# Altium schematic symbol library buffer_digital.SchLib: 76 symbols
Pins are listed as number, name and electrical type; pins without a type are passive.

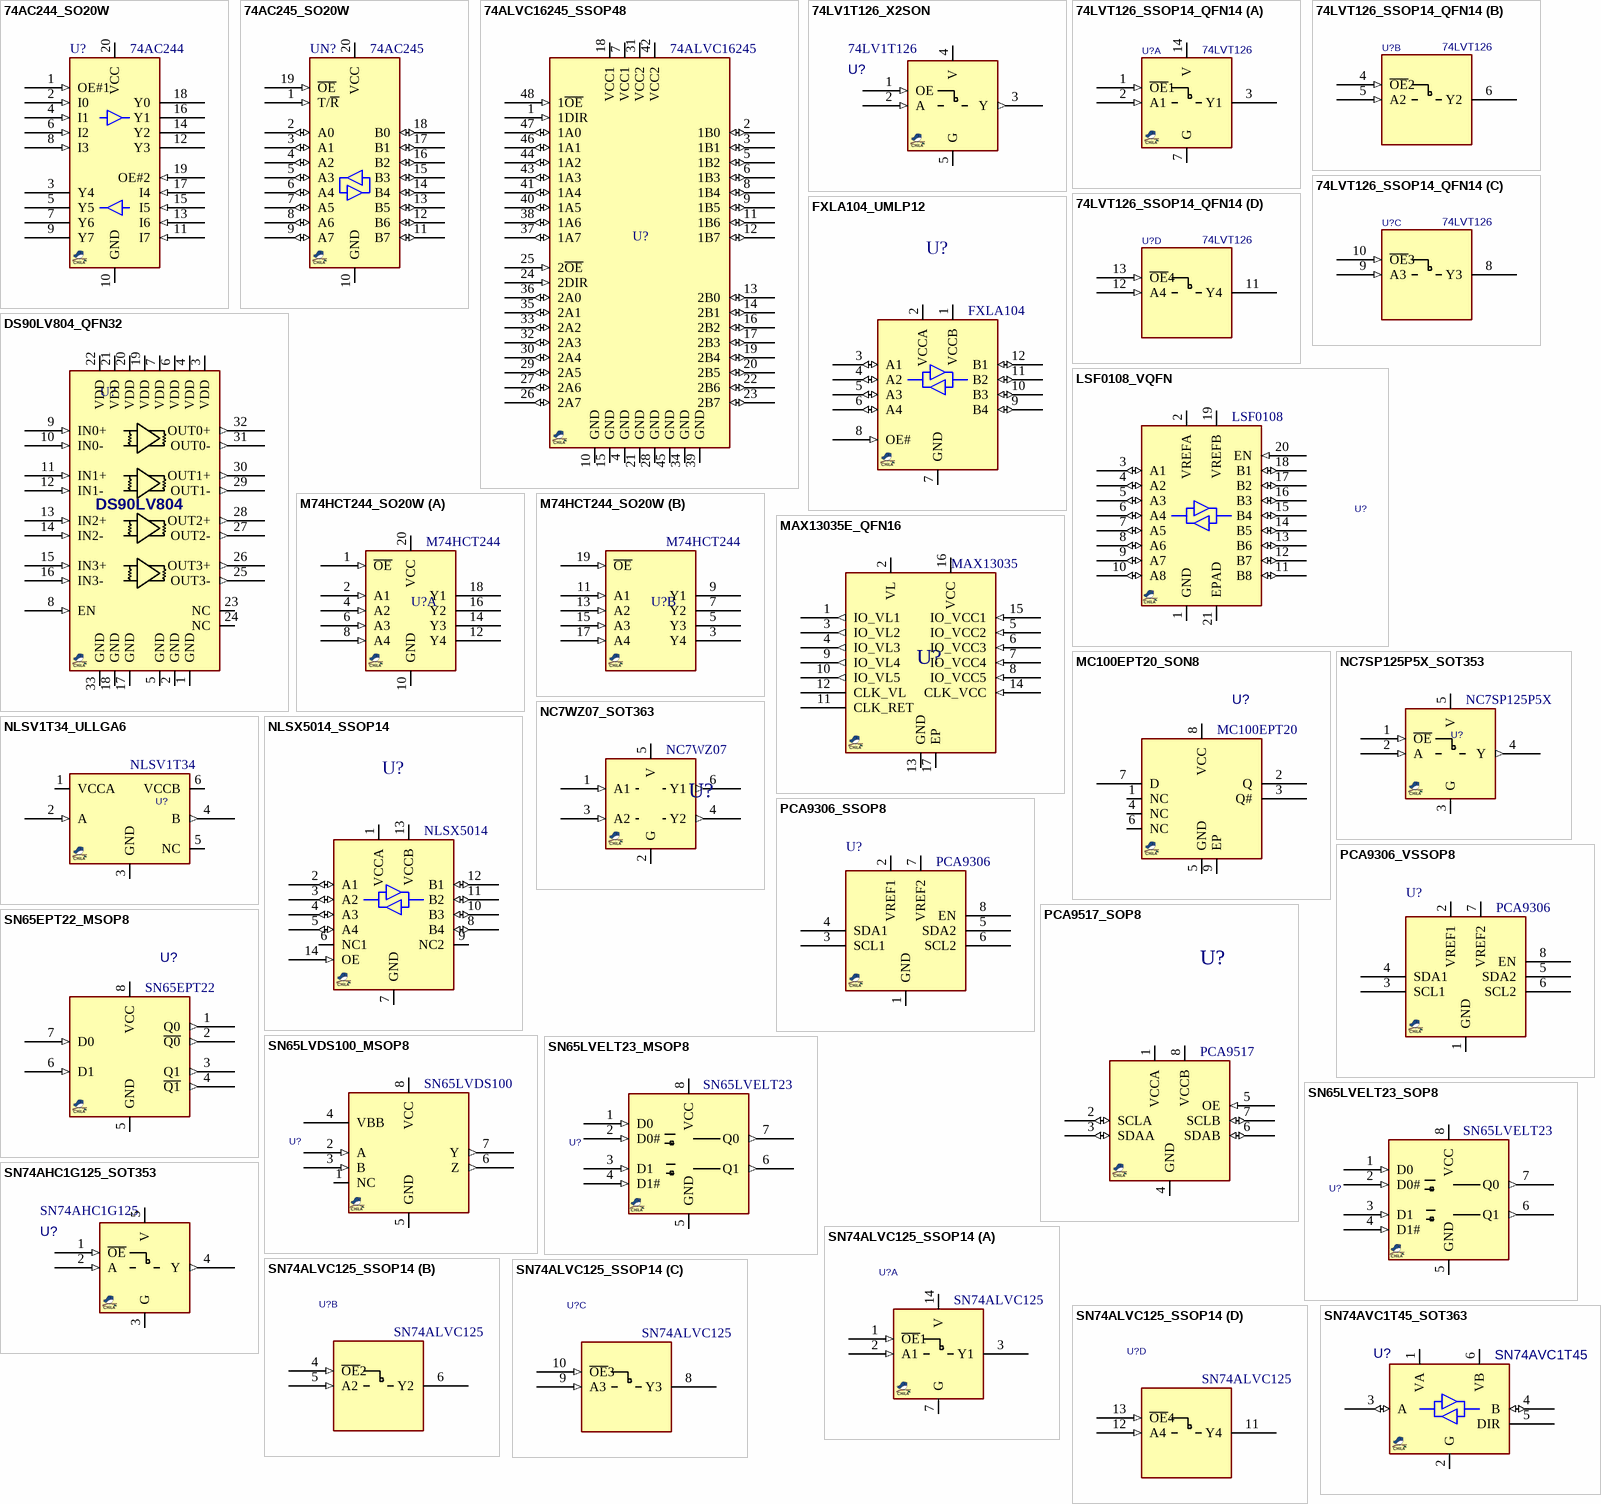
[diagram p0: symbols 74AC244_SO20W to SN74AVC1T45_SOT363]

## 74AC244_SO20W
designator U?, comment 74AC244
Buffer/Line Driver, Octal with 3-State Output; MANF: Fairchild; DIST#: MOUSER/512-74AC244SC; MANF_P#: 74AC244SC; PRICE: 0.6$; VALUE: 74AC244
footprint SO_20_W (SOP, SOIC, 7.5mm width, 1.27mm pitch,)
pins: 1 OE#1 (in), 2 I0 (in), 3 Y4 (hiz), 4 I1 (in), 5 Y5 (hiz), 6 I2 (in), 7 Y6 (hiz), 8 I3 (in), 9 Y7 (hiz), 10 GND (power), 11 I7 (in), 12 Y3 (hiz), 13 I6 (in), 14 Y2 (hiz), 15 I5 (in), 16 Y1 (hiz), 17 I4 (in), 18 Y0 (hiz), 19 OE#2 (in), 20 VCC (power)

## 74AC245_SO20W
designator UN?, comment 74AC245
Buffer/Line Driver, Bidirectional, Octal with 3-State Input/Output; MANF: Fairchild; DIST#: MOUSER/512-74AC245SCX; MANF_P#: 74AC245SCX; PRICE: 0.65$; VALUE: 74AC245
footprint SO_20_W (SOP, SOIC, 7.5mm width, 1.27mm pitch,)
pins: 1 T/~{R} (in), 2 A0 (io), 3 A1 (io), 4 A2 (io), 5 A3 (io), 6 A4 (io), 7 A5 (io), 8 A6 (io), 9 A7 (io), 10 GND (power), 11 B7 (io), 12 B6 (io), 13 B5 (io), 14 B4 (io), 15 B3 (io), 16 B2 (io), 17 B1 (io), 18 B0 (io), 19 ~{OE} (in), 20 VCC (power)

## 74ALVC16245_SSOP48
designator U?, comment 74ALVC16245
bus transceiver, 16-bit, with direction pin; 3-state; MANF: NXP; MANF_P#: 74ALVC16245DL, 74ALVCH16245DL; VALUE: 74ALVC16245
footprint SOG63_48
pins: 1 1DIR (in), 2 1B0 (io), 3 1B1 (io), 4 GND (power), 5 1B2 (io), 6 1B3 (io), 7 VCC1 (power), 8 1B4 (io), 9 1B5 (io), 10 GND (power), 11 1B6 (io), 12 1B7 (io), 13 2B0 (io), 14 2B1 (io), 15 GND (power), 16 2B2 (io), 17 2B3 (io), 18 VCC1 (power), 19 2B4 (io), 20 2B5 (io), 21 GND (power), 22 2B6 (io), 23 2B7 (io), 24 2DIR (in), 25 2~{OE} (in), 26 2A7 (io), 27 2A6 (io), 28 GND (power), 29 2A5 (io), 30 2A4 (io), 31 VCC2 (power), 32 2A3 (io), 33 2A2 (io), 34 GND (power), 35 2A1 (io), 36 2A0 (io), 37 1A7 (io), 38 1A6 (io), 39 GND (power), 40 1A5 (io), 41 1A4 (io), 42 VCC2 (power), 43 1A3 (io), 44 1A2 (io), 45 GND (power), 46 1A1 (io), 47 1A0 (io), 48 1~{OE} (in)

## 74LV1T126_X2SON
designator U?, comment 74LV1T126
Buffer, Single; MANF: NXP; PARAM: ±24mA, 5ns, -40~125°C; DESC: DESCRIPTION; MANF_P#: 74LV1T126GX; PARAM2: 1.65~5.5v; ASSEMBLY: ASSEMBLY; PRICE: 0.4$; VALUE: 74LV1T126
footprint SON50_4T_0808 (SDFN-4, X2SON 5, DPW, 0.8X0.8mm, 0.48mm pitch)
pins: 1 OE (in), 2 A (in), 3 Y (out), 4 V (power), 5 G (power)

## 74LVT126_SSOP14_QFN14
designator U?, comment 74LVT126
Buffer/Line Driver, Quad, Tri-State; MANF: NXP; MANF_P#: 74LVT126BQ,115; PARAM2: 3.3V; PARAM: 64mA, 6ns, -40~85°C; PRICE: 0.4$; VALUE: 74LVT126
footprint QFN50_14T_2530 (DHVQFN14, 0.5mm pitch, 2.5x3x0.85mm)
part A pins: 1 ~{OE}1 (in), 2 A1 (in), 3 Y1 (hiz), 7 G (power), 14 V (power)
part B pins: 4 ~{OE}2 (in), 5 A2 (in), 6 Y2 (hiz)
part C pins: 8 Y3 (hiz), 9 A3 (in), 10 ~{OE}3 (in)
part D pins: 11 Y4 (hiz), 12 A4 (in), 13 ~{OE}4 (in)

## DS90LV804_QFN32
designator U?, comment DS90LV804  (value not drawn)
Buffer/Line Driver, 4CH, LVDS, 800Mbps; MANF: Texas Instruments; MANF_P#: DS90LV804TSQ; PARAM2: 3.3Vcc; DIST#: -; PRICE: 5$; PARAM: 4CH, LVDS, 800Mbps; VALUE: DS90LV804
footprint QFN50_32T (QFN-32, RGJ, 5X5mm, 0.5mm)
pins: 1 GND (power), 2 GND (power), 3 VDD (power), 4 VDD (power), 5 GND (power), 6 VDD (power), 7 VDD (power), 8 EN (in), 9 IN0+ (in), 10 IN0- (in), 11 IN1+ (in), 12 IN1- (in), 13 IN2+ (in), 14 IN2- (in), 15 IN3+ (in), 16 IN3- (in), 17 GND (power), 18 GND (power), 19 VDD (power), 20 VDD (power), 21 VDD (power), 22 VDD (power), 23 NC, 24 NC, 25 OUT3- (out), 26 OUT3+ (out), 27 OUT2- (out), 28 OUT2+ (out), 29 OUT1- (out), 30 OUT1+ (out), 31 OUT0- (out), 32 OUT0+ (out), 33 GND (power)

## FXLA104_UMLP12
designator U?, comment FXLA104
Level Translator, Quad, 100Mbps, UMLP-12; MANF: ON/FAIRCHILD; MANF_P#: FXLA104UM12X; PARAM2: 1.1~3.6VCC (VCCA<=VCCB); PARAM: 100Mbps, -40~85oC; PRICE: 1.4$; VALUE: FXLA104
footprint QFN40_12_1818 (UMLP-12, QFN, 12-Leads, 1.8x1.80mm, Pitch 0.40mm, JEDEC MO-252)
pins: 1 VCCB, 2 VCCA, 3 A1 (io), 4 A2 (io), 5 A3 (io), 6 A4 (io), 7 GND, 8 OE# (in), 9 B4 (io), 10 B3 (io), 11 B2 (io), 12 B1 (io)

## LSF0108_VQFN
designator U?, comment LSF0108
Level Translator, 8CH, Bidirectional, Open-Drain/Push-Pull App; MANF: TI; MANF_P#: LSF0108RKSR; VALUE: LSF0108
footprint QFN50_20T_4X2 (RGY VQFN-20, 0.5mm Pitch, 4.5x2.5x1mm)
pins: 1 GND (power), 2 VREFA (power), 3 A1 (io), 4 A2 (io), 5 A3 (io), 6 A4 (io), 7 A5 (io), 8 A6 (io), 9 A7 (io), 10 A8 (io), 11 B8 (io), 12 B7 (io), 13 B6 (io), 14 B5 (io), 15 B4 (io), 16 B3 (io), 17 B2 (io), 18 B1 (io), 19 VREFB (power), 20 EN (in), 21 EPAD

## M74HCT244_SO20W
designator U?, comment M74HCT244
Buffer, Octal, 3 State Outputs; MANF: ON; MANF_P#: M74HCT244M1R; VALUE: M74HCT244
footprint SO_20_W (SOP, SOIC, 7.5mm width, 1.27mm pitch,)
part A pins: 1 ~{OE} (in), 2 A1 (in), 4 A2 (in), 6 A3 (in), 8 A4 (in), 10 GND (power), 12 Y4 (hiz), 14 Y3 (hiz), 16 Y2 (hiz), 18 Y1 (hiz), 20 VCC (power)
part B pins: 3 Y4 (hiz), 5 Y3 (hiz), 7 Y2 (hiz), 9 Y1 (hiz), 11 A1 (in), 13 A2 (in), 15 A3 (in), 17 A4 (in), 19 ~{OE} (in)

## MAX13035E_QFN16
designator U?, comment MAX13035
Level Translator, 6-ch, 100Mbps; MANF: MAXIM; MANF_P#: MAX13035EETE+; PARAM2: 1.6~3.2VAA/2.2~3.6VB; VALUE: MAX13035
footprint QFN50_16T_4X4 (QFN, 16, 4X4mm, 0.5mm)
pins: 1 IO_VL1 (out), 2 VL, 3 IO_VL2 (out), 4 IO_VL3 (out), 5 IO_VCC2 (in), 6 IO_VCC3 (in), 7 IO_VCC4 (in), 8 IO_VCC5 (in), 9 IO_VL4 (out), 10 IO_VL5 (out), 11 CLK_RET, 12 CLK_VL, 13 GND, 14 CLK_VCC (in), 15 IO_VCC1 (in), 16 VCC, 17 EP

## MC100EPT20_SON8
designator U?, comment MC100EPT20
Buffer, LVTTL/LVCMOS to Diff-LVPECL , 1GHz, 3.3V, DFN-8; MANF: ON; DESC: DESCRIPTION; MANF_P#: MC100EPT20MNR4G; ASSEMBLY: ASSEMBLY; PARAM: PARAM; PRICE: 8$; VALUE: MC100EPT20
footprint SON50_8T_2020 (DSG PWSON (TI), Pitch: 0.5mm 2x2x0.8mm with Thermal pad)
pins: 1 NC, 2 Q, 3 Q#, 4 NC, 5 GND, 6 NC, 7 D, 8 VCC, 9 EP

## NC7SP125P5X_SOT353
designator U?, comment NC7SP125P5X
Buffer, ULP, 0.9-3.6V; MANF: FAIRCHILD; MANF_P#: NC7SP125P5X; PARAM2: 0.9-3.6V; PRICE: -; VALUE: NC7SP125P5X
footprint SOT353_5 (SC-88A, SC70-5, SOT-353, DCK (TI), 0.65mm pitch 2X1.3mm body)
pins: 1 ~{OE} (in), 2 A (in), 3 G (power), 4 Y (out), 5 V (power)

## NC7WZ07_SOT363
designator U?, comment NC7WZ07
Buffer, Dual, UHS, OpenDrainOutput; MANF: FAIRCHILD; MANF_P#: NC7WZ07P6X; PARAM2: 1.65~5.5V; VALUE: NC7WZ07
footprint SOT363_6 (SOT-363, SC-70_6, BFS483, SC-88, MO-203AB, DSO65_6_200X130)
pins: 1 A1 (in), 2 G, 3 A2 (in), 4 Y2 (out), 5 V, 6 Y1 (out)

## NLSV1T34_ULLGA6
designator U?, comment NLSV1T34
Level Translator, 1BIT 0.9-4.5V 613AF; MANF: On Semiconductor; MANF_P#: NLSV1T34AMX1TCG; VALUE: NLSV1T34
footprint SON50_6_140X100 (DRY, ULLGA6_1.45X1_0.5MM, USON 6-PIN , Udfn)
pins: 1 VCCA (power), 2 A (in), 3 GND (power), 4 B (out), 5 NC, 6 VCCB (power)

## NLSX5014_SSOP14
designator U?, comment NLSX5014
Level Translator, Quad, 100Mbps; MANF: ON; MANF_P#: NLSX5014DTR2G; PARAM2: 0.9~4.5V; PARAM: 100Mbps, -55~125oC; VALUE: NLSX5014
footprint SOG65_14 (PW TSSOP (TI), MO-153-AB (JEDEC), 14Lead, pitch: 0.65mm, 5x4.4x1.2mm)
pins: 1 VCCA, 2 A1 (io), 3 A2 (io), 4 A3 (io), 5 A4 (io), 6 NC1, 7 GND, 8 B4 (io), 9 NC2, 10 B3 (io), 11 B2 (io), 12 B1 (io), 13 VCCB, 14 OE (in)

## PCA9306_SSOP8
designator U?, comment PCA9306
Level Translator, I2C; MANF: Texas Instruments; MANF_P#: PCA9306DCTR; PARAM2: 1.2~3.3V1, 1.8~5.5V2; PRICE: 1=0.94, 10=0.829, 25=0.7488, 100=0.351, 250=0.34452, 500=0.338, 750=0.33151 (USD); VALUE: PCA9306
footprint SOG65_8_3 (TSSOP8, MICRO8,  DGK VSSOP-8, MSOP8,   RM-8, MS8, MSOP-8, TSSO3X5-G8/D3.1, 8 uMAX, usop8/8uSOP, MO-187AA, MO-153AA, SSOP DCT SM8 (TI), pitch: 0.65mm, 3.0mmX3.0mm)
pins: 1 GND, 2 VREF1, 3 SCL1, 4 SDA1, 5 SDA2, 6 SCL2, 7 VREF2, 8 EN

## PCA9306_VSSOP8
designator U?, comment PCA9306
Level Translator, I2C; MANF: Texas Instruments; MANF_P#: PCA9306DCUT; PARAM2: 1.2~3.3V1, 1.8~5.5V2; PRICE: 1=0.94, 10=0.829, 25=0.7488, 100=0.351, 250=0.34452, 500=0.338, 750=0.33151 (USD); VALUE: PCA9306
footprint SOG50_8 (VSSOP DCU US8  (TI), 8-Leads, 2.00x2.30mm, Pitch 0.50mm)
pins: 1 GND, 2 VREF1, 3 SCL1, 4 SDA1, 5 SDA2, 6 SCL2, 7 VREF2, 8 EN

## PCA9517_SOP8
designator U?, comment PCA9517
Level Translator, I2C; MANF: TI; MANF_P#: PCA9517D; PARAM2: 2.7~5.5V; VALUE: PCA9517
footprint SO_8 (SOP-8, 5x3.9mm body 1.27mm pitch, SOT96-1, M08A, S8, SOIC8, VO8, MS-012AA(JEDEC), R-8, 8S2, VOG8)
pins: 1 VCCA, 2 SCLA (io), 3 SDAA (io), 4 GND, 5 OE (in), 6 SDAB (io), 7 SCLB (io), 8 VCCB

## SN65EPT22_MSOP8
designator U?, comment SN65EPT22
Buffer, LVTTL/LVCMOS to Diff-LVPECL , DUAL, 4000Mbps, 3.3V, VSSOP (DGK); MANF: Texas Instruments; DESC: DESCRIPTION; MANF_P#: SN65EPT22DGK; ASSEMBLY: ASSEMBLY; PARAM: PARAM; PRICE: PRICE; VALUE: SN65EPT22
footprint SOG65_8_3 (TSSOP8, MICRO8,  DGK VSSOP-8, MSOP8,   RM-8, MS8, MSOP-8, TSSO3X5-G8/D3.1, 8 uMAX, usop8/8uSOP, MO-187AA, MO-153AA, SSOP DCT SM8 (TI), pitch: 0.65mm, 3.0mmX3.0mm)
pins: 1 Q0 (out) "LVPECL outputs", 2 ~{Q0} (out) "LVPECL outputs", 3 Q1 (out) "LVPECL outputs", 4 ~{Q1} (out) "LVPECL outputs", 5 GND (power) "Ground", 6 D1 (in) "LVTTL data inputs", 7 D0 (in) "LVTTL data inputs", 8 VCC (power) "Positive supply"

## SN65LVDS100_MSOP8
designator U?, comment SN65LVDS100
Buffer, Diff LVPECL/LVDS/CML signaling, 3.3V; MANF: Texas Instruments; MANF_P#: SN65LVDS100DGK; PARAM2: 3.3V; VALUE: SN65LVDS100
footprint SOG65_8_3 (TSSOP8, MICRO8,  DGK VSSOP-8, MSOP8,   RM-8, MS8, MSOP-8, TSSO3X5-G8/D3.1, 8 uMAX, usop8/8uSOP, MO-187AA, MO-153AA, SSOP DCT SM8 (TI), pitch: 0.65mm, 3.0mmX3.0mm)
pins: 1 NC, 2 A (in), 3 B (in), 4 VBB, 5 GND (power), 6 Z (out), 7 Y (out), 8 VCC (power)

## SN65LVELT23_MSOP8
designator U?, comment SN65LVELT23
Buffer, Diff LVPECL/LVDS to LVTTL Translator, 2-CH, 3.3V; MANF: Texas Instruments; MANF_P#: SN65LVELT23DGK; PARAM: 8-BIT, BIDIRECTIONAL, AUTO-DIRECTION SENSING; PARAM2: 3.3V; VALUE: SN65LVELT23
footprint SOG65_8_3 (TSSOP8, MICRO8,  DGK VSSOP-8, MSOP8,   RM-8, MS8, MSOP-8, TSSO3X5-G8/D3.1, 8 uMAX, usop8/8uSOP, MO-187AA, MO-153AA, SSOP DCT SM8 (TI), pitch: 0.65mm, 3.0mmX3.0mm)
pins: 1 D0 (in), 2 D0# (in), 3 D1 (in), 4 D1# (in), 5 GND, 6 Q1 (out), 7 Q0 (out), 8 VCC

## SN65LVELT23_SOP8
designator U?, comment SN65LVELT23
Buffer, Diff LVPECL/LVDS to LVTTL Translator, 2-CH, 3.3V; MANF: Texas Instruments; MANF_P#: SN65LVELT23D; PARAM: 8-BIT, BIDIRECTIONAL, AUTO-DIRECTION SENSING; PARAM2: 3.3V; VALUE: SN65LVELT23
footprint SO_8 (SOP-8, 5x3.9mm body 1.27mm pitch, SOT96-1, M08A, S8, SOIC8, VO8, MS-012AA(JEDEC), R-8, 8S2, VOG8)
pins: 1 D0 (in), 2 D0# (in), 3 D1 (in), 4 D1# (in), 5 GND, 6 Q1 (out), 7 Q0 (out), 8 VCC

## SN74AHC1G125_SOT353
designator U?, comment SN74AHC1G125
Buffer, Single; MANF: TI; DESC: DESCRIPTION; MANF_P#: SN74AHC1G125DCKR; ASSEMBLY: ASSEMBLY; PARAM: PARAM; PRICE: PRICE; VALUE: SN74AHC1G125
footprint SOT353_5 (SC-88A, SC70-5, SOT-353, DCK (TI), 0.65mm pitch 2X1.3mm body)
pins: 1 ~{OE} (in), 2 A (in), 3 G (power), 4 Y (out), 5 V (power)

## SN74ALVC125_SSOP14
designator U?, comment SN74ALVC125
Buffer/Line Driver, Quad, Tri-State; MANF: Texas Instruments; MANF_P#: SN74ALVC125PWR; VALUE: SN74ALVC125
footprint SOG65_14 (PW TSSOP (TI), MO-153-AB (JEDEC), 14Lead, pitch: 0.65mm, 5x4.4x1.2mm)
part A pins: 1 ~{OE}1 (in), 2 A1 (in), 3 Y1 (hiz), 7 G (power), 14 V (power)
part B pins: 4 ~{OE}2 (in), 5 A2 (in), 6 Y2 (hiz)
part C pins: 8 Y3 (hiz), 9 A3 (in), 10 ~{OE}3 (in)
part D pins: 11 Y4 (hiz), 12 A4 (in), 13 ~{OE}4 (in)

## SN74AVC1T45_SOT363
designator U?, comment SN74AVC1T45
Level Translator, 1-bit; PARAM: 1.2V-3.6V; MANF: TI; DESC: DESCRIPTION; MANF_P#: SN74AVC1T45DCKR; PRICE: 0.217; ASSEMBLY: ASSEMBLY; VALUE: SN74AVC1T45
footprint SOT363_6 (SOT-363, SC-70_6, BFS483, SC-88, MO-203AB, DSO65_6_200X130)
pins: 1 VA (power), 2 G (power), 3 A (io), 4 B (io), 5 DIR, 6 VB (power)

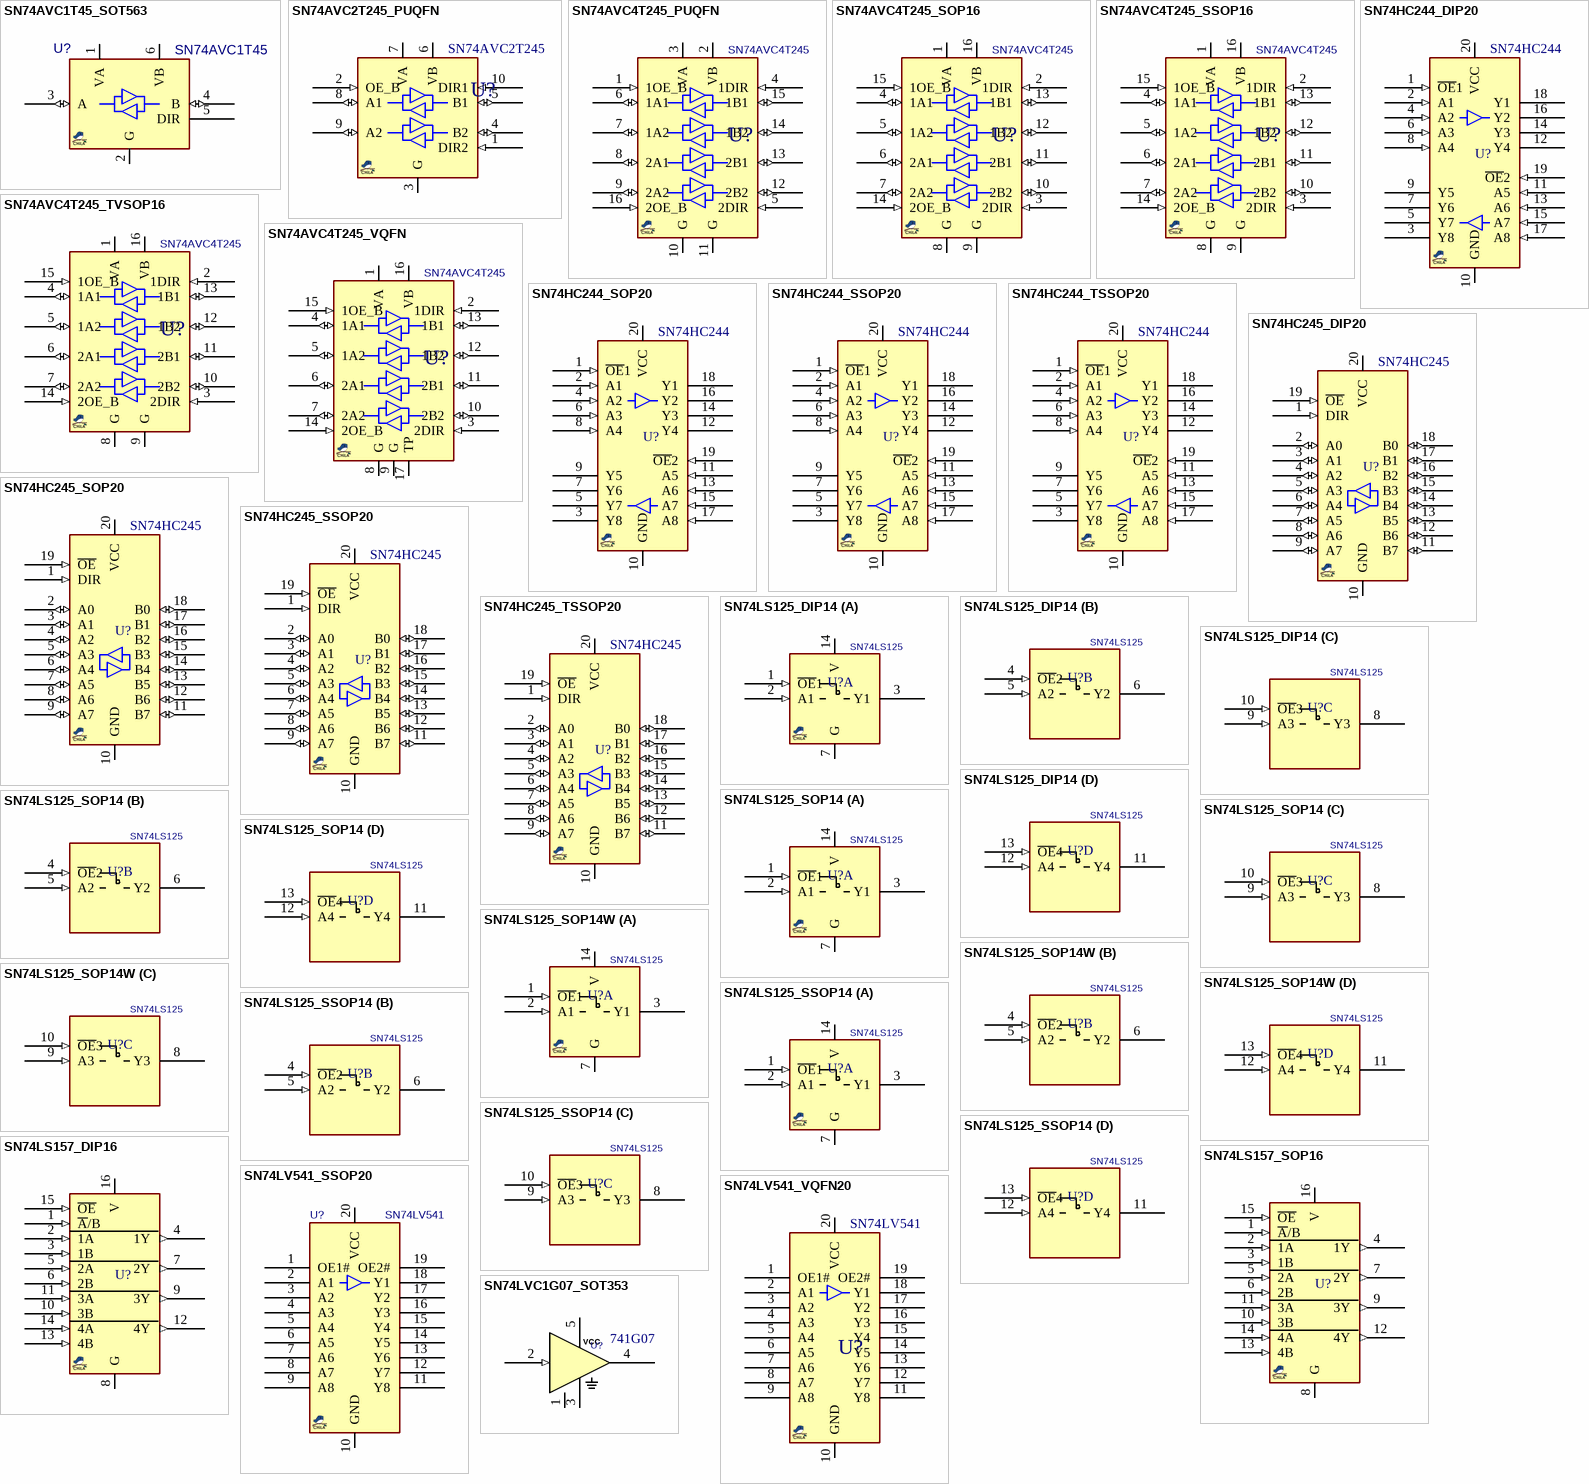
[diagram p1: symbols SN74AVC1T45_SOT563 to SN74LVC1G07_SOT353]

## SN74AVC1T45_SOT563
designator U?, comment SN74AVC1T45
Level Translator, 1-bit; PARAM: 1.2V-3.6V; MANF: TI; DESC: DESCRIPTION; MANF_P#: SN74AVC1T45DRL; PRICE: 0.217; ASSEMBLY: ASSEMBLY; VALUE: SN74AVC1T45
footprint SOT563_6 (SOT-563, SOT-666, 6 LEAD, Body 1.2x1.6mm, Pitch 0.50mm)
pins: 1 VA (power), 2 G (power), 3 A (io), 4 B (io), 5 DIR, 6 VB (power)

## SN74AVC2T245_PUQFN
designator U?, comment SN74AVC2T245
Level Translator, Dual, 3State; MANF: TEXAS INSTRUMENTS; MANF_P#: SN74AVC2T245RSWR; PRICE: 0.6$; VALUE: SN74AVC2T245
footprint QFN40_10_1418 (PUQFN-10 RSW 1.8X1.4mm, 0.4mm pitch)
pins: 1 DIR2 (in), 2 OE_B (in), 3 G, 4 B2 (io), 5 B1 (io), 6 VB, 7 VA, 8 A1 (io), 9 A2 (io), 10 DIR1 (in)

## SN74AVC4T245_PUQFN
designator U?, comment SN74AVC4T245
Level Translator, Quad, 3State; MANF: TEXAS INSTRUMENTS; MANF_P#: SN74AVC4T245RSVR; PARAM2: 1.2~3.6V; PARAM: 2.9ns; PRICE: 1$; VALUE: SN74AVC4T245
footprint QFN40_16_2618 (PUQFN-16 RSV 2.6X1.8mm, 0.4mm pitch)
pins: 1 1OE_B (in), 2 VB, 3 VA, 4 1DIR (in), 5 2DIR (in), 6 1A1 (io), 7 1A2 (io), 8 2A1 (io), 9 2A2 (io), 10 G, 11 G, 12 2B2 (io), 13 2B1 (io), 14 1B2 (io), 15 1B1 (io), 16 2OE_B (in)

## SN74AVC4T245_SOP16
designator U?, comment SN74AVC4T245
Level Translator, Quad, 3State; MANF: TEXAS INSTRUMENTS; MANF_P#: SN74AVC4T245DR; PARAM2: 1.2~3.6V; PARAM: 2.9ns; PRICE: 1$; VALUE: SN74AVC4T245
footprint SO_16 (SOP, SOIC, 3.9mm width, 1.27mm pitch,)
pins: 1 VA, 2 1DIR (in), 3 2DIR (in), 4 1A1 (io), 5 1A2 (io), 6 2A1 (io), 7 2A2 (io), 8 G, 9 G, 10 2B2 (io), 11 2B1 (io), 12 1B2 (io), 13 1B1 (io), 14 2OE_B (in), 15 1OE_B (in), 16 VB

## SN74AVC4T245_SSOP16
designator U?, comment SN74AVC4T245
Level Translator, Quad, 3State; MANF: TEXAS INSTRUMENTS; MANF_P#: SN74AVC4T245PWR; PARAM2: 1.2~3.6V; PARAM: 2.9ns; PRICE: 1$; VALUE: SN74AVC4T245
footprint SOG65_16 (PW TSSOP (TI), MO-153-AB (JEDEC), 16Lead, pitch: 0.65mm, 5x4.4x1.2mm)
pins: 1 VA, 2 1DIR (in), 3 2DIR (in), 4 1A1 (io), 5 1A2 (io), 6 2A1 (io), 7 2A2 (io), 8 G, 9 G, 10 2B2 (io), 11 2B1 (io), 12 1B2 (io), 13 1B1 (io), 14 2OE_B (in), 15 1OE_B (in), 16 VB

## SN74AVC4T245_TVSOP16
designator U?, comment SN74AVC4T245
Level Translator, Quad, 3State; MANF: TEXAS INSTRUMENTS; MANF_P#: SN74AVC4T245DGVR; PARAM2: 1.2~3.6V; PARAM: 2.9ns; PRICE: 1$; VALUE: SN74AVC4T245
footprint SOG40_16
pins: 1 VA, 2 1DIR (in), 3 2DIR (in), 4 1A1 (io), 5 1A2 (io), 6 2A1 (io), 7 2A2 (io), 8 G, 9 G, 10 2B2 (io), 11 2B1 (io), 12 1B2 (io), 13 1B1 (io), 14 2OE_B (in), 15 1OE_B (in), 16 VB

## SN74AVC4T245_VQFN
designator U?, comment SN74AVC4T245
Level Translator, Quad, 3State; MANF: TEXAS INSTRUMENTS; MANF_P#: SN74AVC4T245RGYR; PARAM2: 1.2~3.6V; PARAM: 2.9ns; PRICE: 1$; VALUE: SN74AVC4T245
footprint QFN50_16T_4X3 (Footprint not found)
pins: 1 VA, 2 1DIR (in), 3 2DIR (in), 4 1A1 (io), 5 1A2 (io), 6 2A1 (io), 7 2A2 (io), 8 G, 9 G, 10 2B2 (io), 11 2B1 (io), 12 1B2 (io), 13 1B1 (io), 14 2OE_B (in), 15 1OE_B (in), 16 VB, 17 TP

## SN74HC244_DIP20
designator U?, comment SN74HC244
Buffer/Line Driver, Octal, 3-State Outputs; MANF: Texas Instruments; MANF_P#: SN74HC244N; PARAM2: 2~6V; VALUE: SN74HC244
footprint DIP_20 (DIP, pitch 2.54mm, 300mil Width)
pins: 1 ~{OE}1 (in), 2 A1 (in), 3 Y8 (hiz), 4 A2 (in), 5 Y7 (hiz), 6 A3 (in), 7 Y6 (hiz), 8 A4 (in), 9 Y5 (hiz), 10 GND (power), 11 A5 (in), 12 Y4 (hiz), 13 A6 (in), 14 Y3 (hiz), 15 A7 (in), 16 Y2 (hiz), 17 A8 (in), 18 Y1 (hiz), 19 ~{OE}2 (in), 20 VCC (power)

## SN74HC244_SOP20
designator U?, comment SN74HC244
Buffer/Line Driver, Octal, 3-State Outputs; MANF: Texas Instruments; MANF_P#: SN74HC245NS; PARAM2: 2~6V; VALUE: SN74HC244
footprint SO_20_W5 (Footprint not found)
pins: 1 ~{OE}1 (in), 2 A1 (in), 3 Y8 (hiz), 4 A2 (in), 5 Y7 (hiz), 6 A3 (in), 7 Y6 (hiz), 8 A4 (in), 9 Y5 (hiz), 10 GND (power), 11 A5 (in), 12 Y4 (hiz), 13 A6 (in), 14 Y3 (hiz), 15 A7 (in), 16 Y2 (hiz), 17 A8 (in), 18 Y1 (hiz), 19 ~{OE}2 (in), 20 VCC (power)

## SN74HC244_SSOP20
designator U?, comment SN74HC244
Buffer/Line Driver, Octal, 3-State Outputs; MANF: Texas Instruments; MANF_P#: SN74HC244DB; PARAM2: 2~6V; VALUE: SN74HC244
footprint SOG65_20_W (SSOP20, TSSOP20, RU-20, RQ-20, pitch: 0.65mm, 7X5.3mm, QSP, SOT339-1, SOT266-1, AT-260, TSSO6X6-G20, NP20, MO-153AC, MO-150AE, MO-137-AD, MO-152)
pins: 1 ~{OE}1 (in), 2 A1 (in), 3 Y8 (hiz), 4 A2 (in), 5 Y7 (hiz), 6 A3 (in), 7 Y6 (hiz), 8 A4 (in), 9 Y5 (hiz), 10 GND (power), 11 A5 (in), 12 Y4 (hiz), 13 A6 (in), 14 Y3 (hiz), 15 A7 (in), 16 Y2 (hiz), 17 A8 (in), 18 Y1 (hiz), 19 ~{OE}2 (in), 20 VCC (power)

## SN74HC244_TSSOP20
designator U?, comment SN74HC244
Buffer/Line Driver, Octal, 3-State Outputs; MANF: Texas Instruments; MANF_P#: SN74HC245PW; PARAM2: 2~6V; VALUE: SN74HC244
footprint SOG65_20 (PW TSSOP (TI), MO-153-AC (JEDEC), 20Lead, pitch: 0.65mm, 6.5x4.4x1.2mm)
pins: 1 ~{OE}1 (in), 2 A1 (in), 3 Y8 (hiz), 4 A2 (in), 5 Y7 (hiz), 6 A3 (in), 7 Y6 (hiz), 8 A4 (in), 9 Y5 (hiz), 10 GND (power), 11 A5 (in), 12 Y4 (hiz), 13 A6 (in), 14 Y3 (hiz), 15 A7 (in), 16 Y2 (hiz), 17 A8 (in), 18 Y1 (hiz), 19 ~{OE}2 (in), 20 VCC (power)

## SN74HC245_DIP20
designator U?, comment SN74HC245
Buffer/Line Driver, Bidirectional, Octal, 3-State Input/Output; MANF: Texas Instruments; MANF_P#: SN74HC245N; PARAM2: 2~6V; PARAM: 6mA, 22ns; VALUE: SN74HC245
footprint DIP_20 (DIP, pitch 2.54mm, 300mil Width)
pins: 1 DIR (in), 2 A0 (io), 3 A1 (io), 4 A2 (io), 5 A3 (io), 6 A4 (io), 7 A5 (io), 8 A6 (io), 9 A7 (io), 10 GND (power), 11 B7 (io), 12 B6 (io), 13 B5 (io), 14 B4 (io), 15 B3 (io), 16 B2 (io), 17 B1 (io), 18 B0 (io), 19 ~{OE} (in), 20 VCC (power)

## SN74HC245_SOP20
designator U?, comment SN74HC245
Buffer/Line Driver, Bidirectional, Octal, 3-State Input/Output; MANF: Texas Instruments; MANF_P#: SN74HC245NS; PARAM2: 2~6V; PARAM: 6mA, 22ns; VALUE: SN74HC245
footprint SO_20_W5 (Footprint not found)
pins: 1 DIR (in), 2 A0 (io), 3 A1 (io), 4 A2 (io), 5 A3 (io), 6 A4 (io), 7 A5 (io), 8 A6 (io), 9 A7 (io), 10 GND (power), 11 B7 (io), 12 B6 (io), 13 B5 (io), 14 B4 (io), 15 B3 (io), 16 B2 (io), 17 B1 (io), 18 B0 (io), 19 ~{OE} (in), 20 VCC (power)

## SN74HC245_SSOP20
designator U?, comment SN74HC245
Buffer/Line Driver, Bidirectional, Octal, 3-State Input/Output; MANF: Texas Instruments; MANF_P#: SN74HC245DB; PARAM2: 2~6V; PARAM: 6mA, 22ns; VALUE: SN74HC245
footprint SOG65_20_W (SSOP20, TSSOP20, RU-20, RQ-20, pitch: 0.65mm, 7X5.3mm, QSP, SOT339-1, SOT266-1, AT-260, TSSO6X6-G20, NP20, MO-153AC, MO-150AE, MO-137-AD, MO-152)
pins: 1 DIR (in), 2 A0 (io), 3 A1 (io), 4 A2 (io), 5 A3 (io), 6 A4 (io), 7 A5 (io), 8 A6 (io), 9 A7 (io), 10 GND (power), 11 B7 (io), 12 B6 (io), 13 B5 (io), 14 B4 (io), 15 B3 (io), 16 B2 (io), 17 B1 (io), 18 B0 (io), 19 ~{OE} (in), 20 VCC (power)

## SN74HC245_TSSOP20
designator U?, comment SN74HC245
Buffer/Line Driver, Bidirectional, Octal, 3-State Input/Output; MANF: Texas Instruments; MANF_P#: SN74HC245PW; PARAM2: 2~6V; PARAM: 6mA, 22ns; VALUE: SN74HC245
footprint SOG65_20 (PW TSSOP (TI), MO-153-AC (JEDEC), 20Lead, pitch: 0.65mm, 6.5x4.4x1.2mm)
pins: 1 DIR (in), 2 A0 (io), 3 A1 (io), 4 A2 (io), 5 A3 (io), 6 A4 (io), 7 A5 (io), 8 A6 (io), 9 A7 (io), 10 GND (power), 11 B7 (io), 12 B6 (io), 13 B5 (io), 14 B4 (io), 15 B3 (io), 16 B2 (io), 17 B1 (io), 18 B0 (io), 19 ~{OE} (in), 20 VCC (power)

## SN74LS125_DIP14
designator U?, comment SN74LS125
Buffer/Line Driver, Quad, Tri-State; MANF: Texas Instruments; MANF_P#: SN74LS125AN; VALUE: SN74LS125
footprint DIP_14 (DIP, pitch 2.54mm, 300mil Width)
part A pins: 1 ~{OE}1 (in), 2 A1 (in), 3 Y1 (hiz), 7 G (power), 14 V (power)
part B pins: 4 ~{OE}2 (in), 5 A2 (in), 6 Y2 (hiz)
part C pins: 8 Y3 (hiz), 9 A3 (in), 10 ~{OE}3 (in)
part D pins: 11 Y4 (hiz), 12 A4 (in), 13 ~{OE}4 (in)

## SN74LS125_SOP14
designator U?, comment SN74LS125
Buffer/Line Driver, Quad, Tri-State; MANF: Texas Instruments; MANF_P#: SN74LS125ADR, SN74LS125AD; VALUE: SN74LS125
footprint SO_14 (SOP, SOIC, 3.9mm width, 1.27mm pitch,)
part A pins: 1 ~{OE}1 (in), 2 A1 (in), 3 Y1 (hiz), 7 G (power), 14 V (power)
part B pins: 4 ~{OE}2 (in), 5 A2 (in), 6 Y2 (hiz)
part C pins: 8 Y3 (hiz), 9 A3 (in), 10 ~{OE}3 (in)
part D pins: 11 Y4 (hiz), 12 A4 (in), 13 ~{OE}4 (in)

## SN74LS125_SOP14W
designator U?, comment SN74LS125
Buffer/Line Driver, Quad, Tri-State; MANF: Texas Instruments; MANF_P#: SN74LS125ANS; VALUE: SN74LS125
footprint SO_14_W5 (SOP NS, 5.3mm width, 1.27mm pitch,)
part A pins: 1 ~{OE}1 (in), 2 A1 (in), 3 Y1 (hiz), 7 G (power), 14 V (power)
part B pins: 4 ~{OE}2 (in), 5 A2 (in), 6 Y2 (hiz)
part C pins: 8 Y3 (hiz), 9 A3 (in), 10 ~{OE}3 (in)
part D pins: 11 Y4 (hiz), 12 A4 (in), 13 ~{OE}4 (in)

## SN74LS125_SSOP14
designator U?, comment SN74LS125
Buffer/Line Driver, Quad, Tri-State; MANF: Texas Instruments; MANF_P#: SN74LS125ADBR; VALUE: SN74LS125
footprint SOG65_14_W (SSOP 5.3mm Width 0.65mm pitch, SOT337-1, SOT402-1, MO-150AB(JEDEC),)
part A pins: 1 ~{OE}1 (in), 2 A1 (in), 3 Y1 (hiz), 7 G (power), 14 V (power)
part B pins: 4 ~{OE}2 (in), 5 A2 (in), 6 Y2 (hiz)
part C pins: 8 Y3 (hiz), 9 A3 (in), 10 ~{OE}3 (in)
part D pins: 11 Y4 (hiz), 12 A4 (in), 13 ~{OE}4 (in)

## SN74LS157_DIP16
designator U?, comment SN74LS157
Multiplexer/Selector, Quad, 2to1; MANF: Texas Instruments; MANF_P#: SN74LS157N; PARAM2: 4.75~5.25V; PARAM: 14ns; VALUE: SN74LS157
footprint DIP_16 (DIP, pitch 2.54mm, 300mil Width)
footprint DIP-16
pins: 1 ~{A}/B (in), 2 1A (in), 3 1B (in), 4 1Y (out), 5 2A (in), 6 2B (in), 7 2Y (out), 8 G (power), 9 3Y (out), 10 3B (in), 11 3A (in), 12 4Y (out), 13 4B (in), 14 4A (in), 15 ~{OE} (in), 16 V (power)

## SN74LS157_SOP16
designator U?, comment SN74LS157
Multiplexer/Selector, Quad, 2to1; MANF: Texas Instruments; MANF_P#: SN74LS157D; PARAM2: 4.75~5.25V; PARAM: 14ns; VALUE: SN74LS157
footprint SO_16 (SOP, SOIC, 3.9mm width, 1.27mm pitch,)
footprint DIP-16
pins: 1 ~{A}/B (in), 2 1A (in), 3 1B (in), 4 1Y (out), 5 2A (in), 6 2B (in), 7 2Y (out), 8 G (power), 9 3Y (out), 10 3B (in), 11 3A (in), 12 4Y (out), 13 4B (in), 14 4A (in), 15 ~{OE} (in), 16 V (power)

## SN74LV541_SSOP20
designator U?, comment SN74LV541
Buffer/Line Driver, Octal, 3-State Outputs; MANF: Texas Instruments; MANF_P#: SN74LV541APWR; PARAM2: 2~5.5V; VALUE: SN74LV541
footprint SOG65_20 (PW TSSOP (TI), MO-153-AC (JEDEC), 20Lead, pitch: 0.65mm, 6.5x4.4x1.2mm)
pins: 1 OE1#, 2 A1, 3 A2, 4 A3, 5 A4, 6 A5, 7 A6, 8 A7, 9 A8, 10 GND (power), 11 Y8, 12 Y7, 13 Y6, 14 Y5, 15 Y4, 16 Y3, 17 Y2, 18 Y1, 19 OE2#, 20 VCC

## SN74LV541_VQFN20
designator U?, comment SN74LV541
Buffer/Line Driver, Octal, 3-State Outputs; MANF: Texas Instruments; MANF_P#: SN74LV541ARGYR; PARAM2: 2~5.5V; VALUE: SN74LV541
footprint QFN50_20T_4X3 (RGY VQFN-20, 0.5mm Pitch, 4.5x3.5x1mm)
pins: 1 OE1#, 2 A1, 3 A2, 4 A3, 5 A4, 6 A5, 7 A6, 8 A7, 9 A8, 10 GND (power), 11 Y8, 12 Y7, 13 Y6, 14 Y5, 15 Y4, 16 Y3, 17 Y2, 18 Y1, 19 OE2#, 20 VCC

## SN74LVC1G07_SOT353
designator U?, comment 741G07
Buffer/Line Driver, Single, Open-Drain Output; MANF: Texas Instruments; MANF_P#: SN74LVC1G07DCK; PARAM2: 1.65~5.5V; PARAM: 24mA~3.3V, 4.2ns; PRICE: -; VALUE: 741G07
footprint SOT353_5 (SC-88A, SC70-5, SOT-353, DCK (TI), 0.65mm pitch 2X1.3mm body)
pins: 1 NC, 2 A (in), 3 GND (power), 4 Y, 5 VCC (power)

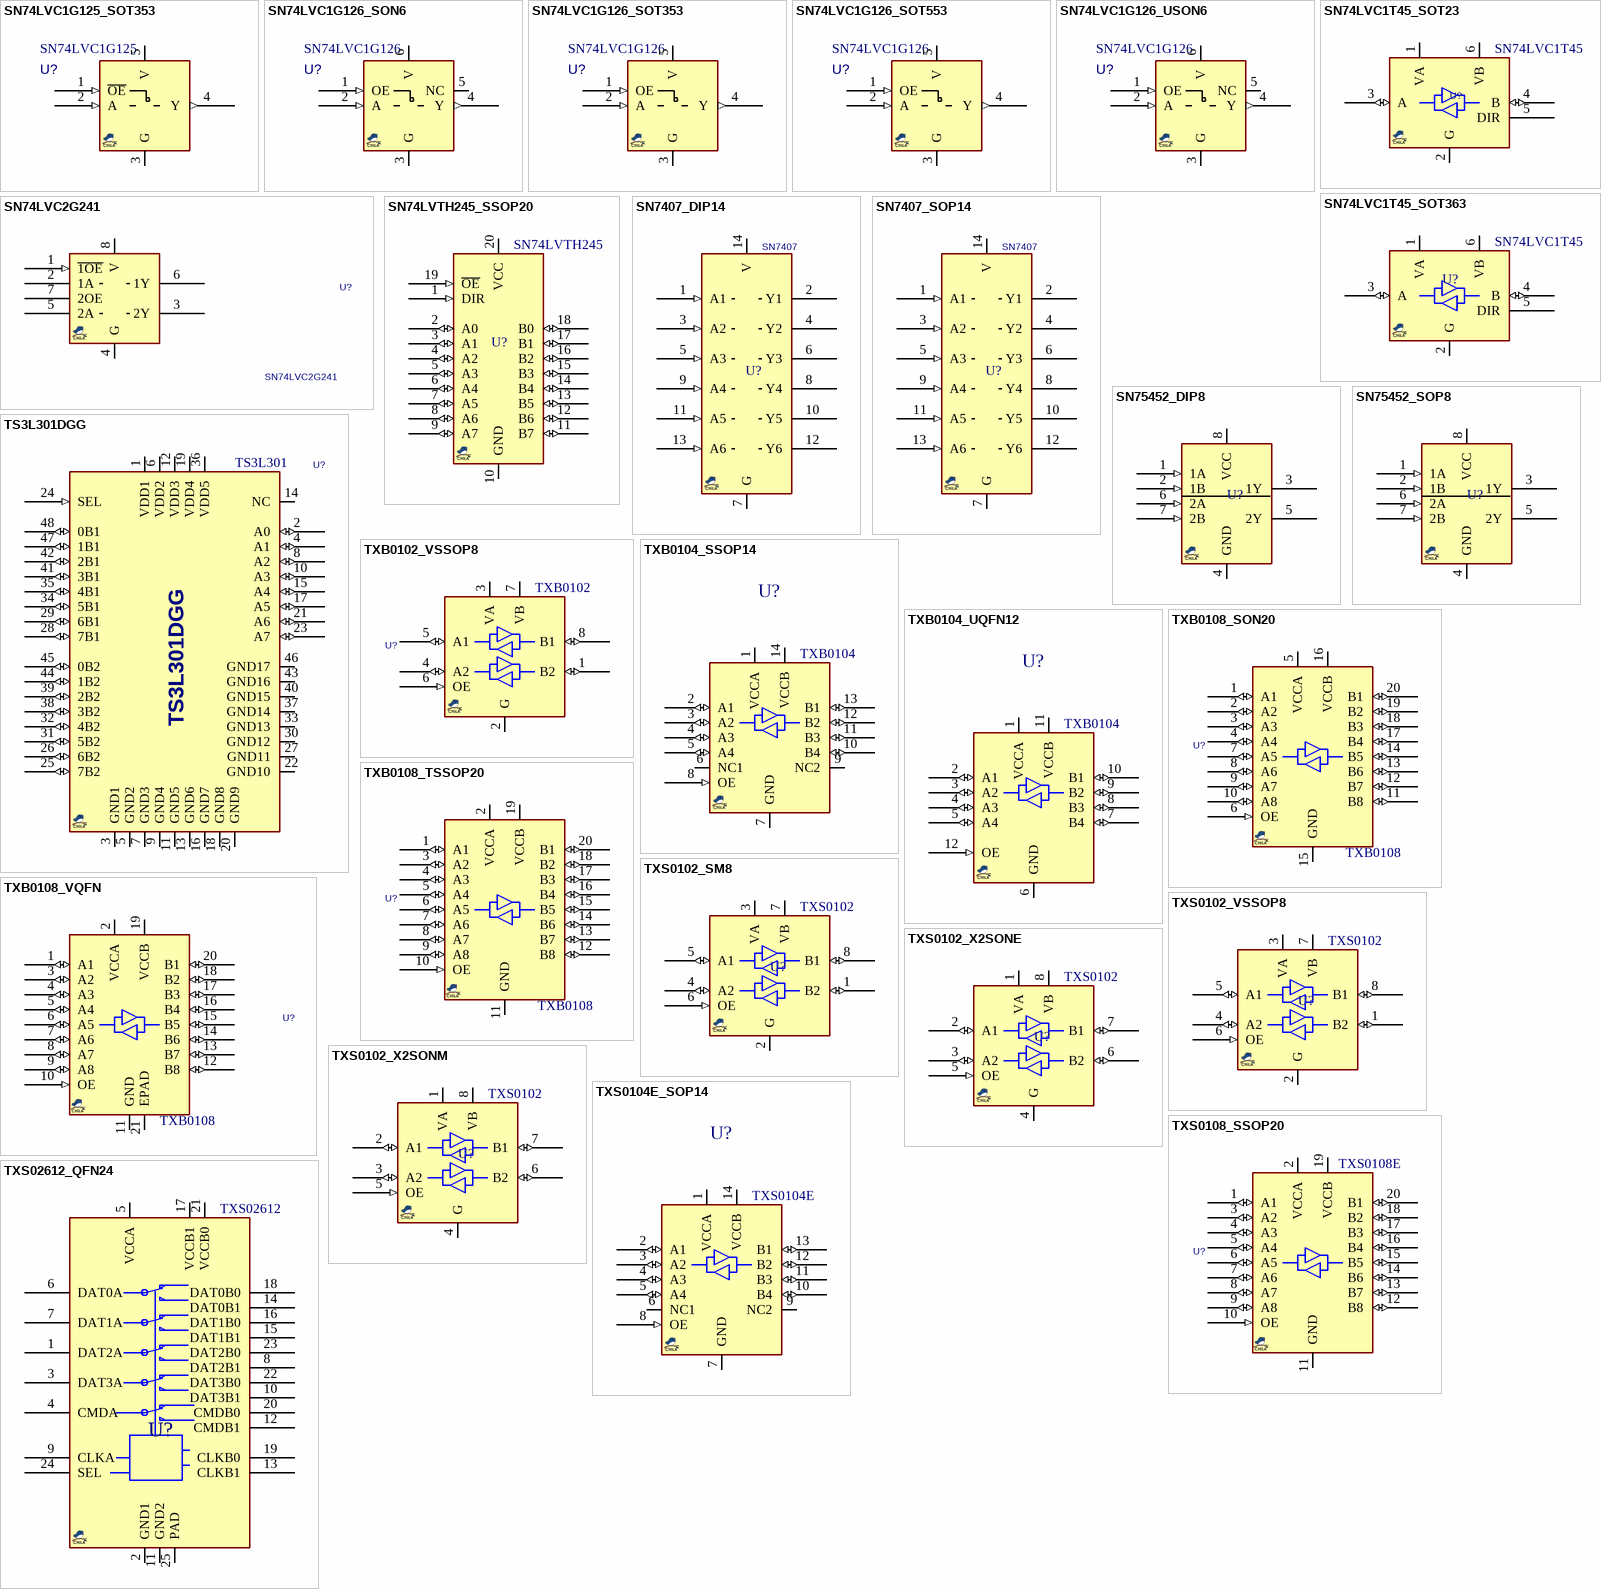
[diagram p2: symbols SN74LVC1G125_SOT353 to TXS02612_QFN24]

## SN74LVC1G125_SOT353
designator U?, comment SN74LVC1G125
Buffer, Single; MANF: TI; PARAM: ±24mA, 3.7ns, -40~125oC; DESC: DESCRIPTION; MANF_P#: SN74LVC1G125DCK; PARAM2: 1.65~5.5v; ASSEMBLY: ASSEMBLY; PRICE: 0.36$; VALUE: SN74LVC1G125
footprint SOT353_5 (SC-88A, SC70-5, SOT-353, DCK (TI), 0.65mm pitch 2X1.3mm body)
pins: 1 ~{OE} (in), 2 A (in), 3 G (power), 4 Y (out), 5 V (power)

## SN74LVC1G126_SON6
designator U?, comment SN74LVC1G126
Buffer, Single; MANF: Texas Instruments; PARAM: ±24mA, 3.7ns, -40~125°C; DESC: DESCRIPTION; MANF_P#: SN74LVC1G126DSF; PARAM2: 1.65~3.6v; ASSEMBLY: ASSEMBLY; PRICE: 0.4$; VALUE: SN74LVC1G126
footprint SON35_6_1010 (DSF X2SON, 0.35mm pitch, 1x1mm)
pins: 1 OE (in), 2 A (in), 3 G (power), 4 Y (out), 5 NC (power), 6 V (power)

## SN74LVC1G126_SOT353
designator U?, comment SN74LVC1G126
Buffer, Single; MANF: TI; PARAM: ±24mA, 3.7ns, -40~125oC; DESC: DESCRIPTION; MANF_P#: SN74LVC1G126DCK; PARAM2: 1.65~5.5v; ASSEMBLY: ASSEMBLY; PRICE: 0.36$; VALUE: SN74LVC1G126
footprint SOT353_5 (SC-88A, SC70-5, SOT-353, DCK (TI), 0.65mm pitch 2X1.3mm body)
pins: 1 OE (in), 2 A (in), 3 G (power), 4 Y (out), 5 V (power)

## SN74LVC1G126_SOT553
designator U?, comment SN74LVC1G126
Buffer, Single; MANF: TI; PARAM: ±24mA, 3.7ns, -40~125oC; DESC: DESCRIPTION; MANF_P#: SN74LVC1G126DRL; PARAM2: 1.65~5.5v; ASSEMBLY: ASSEMBLY; PRICE: 0.36$; VALUE: SN74LVC1G126
footprint SOT553_5 (SOT-553, DRL, 5 LEAD, 1.2x1.6mm, Pitch 0.50mm)
pins: 1 OE (in), 2 A (in), 3 G (power), 4 Y (out), 5 V (power)

## SN74LVC1G126_USON6
designator U?, comment SN74LVC1G126
Buffer, Single; MANF: Texas Instruments; PARAM: ±24mA, 3.7ns, -40~125°C; DESC: DESCRIPTION; MANF_P#: SN74LVC1G126DRY; PARAM2: 1.65~3.6v; ASSEMBLY: ASSEMBLY; PRICE: 0.4$; VALUE: SN74LVC1G126
footprint SON50_6_1410 (DRY, ULLGA6_1.45X1_0.5mm, USON 6-PIN , UDFN, MicroPak-6)
pins: 1 OE (in), 2 A (in), 3 G (power), 4 Y (out), 5 NC (power), 6 V (power)

## SN74LVC1T45_SOT23
designator U?, comment SN74LVC1T45
Level Translator, 1-bit; MANF: Texas Instruments; MANF_P#: SN74LVC1T45DBVR; VALUE: SN74LVC1T45
footprint SOT23_6 (SOT-23-6, MICRO6, SOT-26, SOT457, SuperSOT6, TSOP-6, HMC313, MO-178AB, MO-193AA, TSOT)
pins: 1 VA (power), 2 G (power), 3 A (io), 4 B (io), 5 DIR, 6 VB (power)

## SN74LVC1T45_SOT363
designator U?, comment SN74LVC1T45
Level Translator, 1-bit; MANF: Texas Instruments; MANF_P#: SN74LVC1T45DCK; PARAM2: 1.65~5.5V; PRICE: 0.5$; VALUE: SN74LVC1T45
footprint SOT363_6 (SOT-363, SC-70_6, BFS483, SC-88, MO-203AB, DSO65_6_200X130)
pins: 1 VA (power), 2 G (power), 3 A (io), 4 B (io), 5 DIR, 6 VB (power)

## SN74LVC2G241
designator U?
Buffer/Line Driver, Dual, 3-State Outputs
footprint SOG50_8 (VSSOP DCU US8  (TI), 8-Leads, 2.00x2.30mm, Pitch 0.50mm)
pins: 1 ~{1OE} (in), 2 1A, 3 2Y, 4 G (power), 5 2A, 6 1Y, 7 2OE, 8 V (power)

## SN74LVTH245_SSOP20
designator U?, comment SN74LVTH245
Transceiver, Octal, 3-State; MANF: Texas Instruments; MANF_P#: SN74LVTH245AIPW; PARAM2: 2.7~3.6V; PARAM: 32mA, 3.5ns; VALUE: SN74LVTH245
footprint SOG65_20 (PW TSSOP (TI), MO-153-AC (JEDEC), 20Lead, pitch: 0.65mm, 6.5x4.4x1.2mm)
pins: 1 DIR (in), 2 A0 (io), 3 A1 (io), 4 A2 (io), 5 A3 (io), 6 A4 (io), 7 A5 (io), 8 A6 (io), 9 A7 (io), 10 GND (power), 11 B7 (io), 12 B6 (io), 13 B5 (io), 14 B4 (io), 15 B3 (io), 16 B2 (io), 17 B1 (io), 18 B0 (io), 19 ~{OE} (in), 20 VCC (power)

## SN7407_DIP14
designator U?, comment SN7407
Buffer/ Line Driver, Hex, Open-Collector High-Voltage Outputs; MANF: Texas Instruments; MANF_P#: SN7407N; VALUE: SN7407
footprint DIP_14 (DIP, pitch 2.54mm, 300mil Width)
pins: 1 A1 (in), 2 Y1 (oc), 3 A2 (in), 4 Y2 (oc), 5 A3 (in), 6 Y3 (oc), 7 G (power), 8 Y4 (oc), 9 A4 (in), 10 Y5 (oc), 11 A5 (in), 12 Y6 (oc), 13 A6 (in), 14 V (power)

## SN7407_SOP14
designator U?, comment SN7407
Buffer/ Line Driver, Hex, Open-Collector High-Voltage Outputs; MANF: Texas Instruments; MANF_P#: SN7407D; VALUE: SN7407
footprint SO_14 (SOP, SOIC, 3.9mm width, 1.27mm pitch,)
pins: 1 A1 (in), 2 Y1 (oc), 3 A2 (in), 4 Y2 (oc), 5 A3 (in), 6 Y3 (oc), 7 G (power), 8 Y4 (oc), 9 A4 (in), 10 Y5 (oc), 11 A5 (in), 12 Y6 (oc), 13 A6 (in), 14 V (power)

## SN75452_DIP8
designator U?, comment SN75452
Driver, Dual-Peripheral, High-Current, High-Speed Switching; MANF: Texas Instruments; MANF_P#: SN75452BP; PARAM: 300mA, up to 30V; VALUE: SN75452
footprint DIP_8 (DIP, pitch 2.54mm, 300mil Width)
pins: 1 1A (in), 2 1B (in), 3 1Y (oc), 4 GND (power), 5 2Y (oc), 6 2A (in), 7 2B (in), 8 VCC (power)

## SN75452_SOP8
designator U?, comment SN75452
Driver, Dual-Peripheral, High-Current, High-Speed Switching; MANF: Texas Instruments; MANF_P#: SN75452BDR, SN75452BD; PARAM: 300mA, up to 30V; VALUE: SN75452
footprint SO_8 (SOP-8, 5x3.9mm body 1.27mm pitch, SOT96-1, M08A, S8, SOIC8, VO8, MS-012AA(JEDEC), R-8, 8S2, VOG8)
pins: 1 1A (in), 2 1B (in), 3 1Y (oc), 4 GND (power), 5 2Y (oc), 6 2A (in), 7 2B (in), 8 VCC (power)

## TS3L301DGG
designator U?, comment TS3L301
SPDT, Gigabit LAN switch, 16-bit to 8-bit; MANF: Texas Instruments; MANF_P#: TS3L301DGG; VALUE: TS3L301
footprint SOG50_48T (TSSOP 6.1mm(MAXIM), MO-153-EDT (JEDEC), 48Lead, pitch: 0.5mm, 12.5x6.1x1.2mm)
pins: 1 VDD1 (power), 2 A0 (io), 3 GND1 (power), 4 A1 (io), 5 GND2 (power), 6 VDD2 (power), 7 GND3 (power), 8 A2 (io), 9 GND4 (power), 10 A3 (io), 11 GND5 (power), 12 VDD3 (power), 13 GND6 (power), 14 NC, 15 A4 (io), 16 GND7 (power), 17 A5 (io), 18 GND8 (power), 19 VDD4 (power), 20 GND9 (power), 21 A6 (io), 22 GND10 (power), 23 A7 (io), 24 SEL (in), 25 7B2 (io), 26 6B2 (io), 27 GND11 (power), 28 7B1 (io), 29 6B1 (io), 30 GND12 (power), 31 5B2 (io), 32 4B2 (io), 33 GND13 (power), 34 5B1 (io), 35 4B1 (io), 36 VDD5 (power), 37 GND14 (power), 38 3B2 (io), 39 2B2 (io), 40 GND15 (power), 41 3B1 (io), 42 2B1 (io), 43 GND16 (power), 44 1B2 (io), 45 0B2 (io), 46 GND17 (power), 47 1B1 (io), 48 0B1 (io)

## TXB0102_VSSOP8
designator U?, comment TXB0102
Level Translator, Dual,; MANF: Texas Instruments; MANF_P#: TXB0102DCUR; PARAM2: 1.2~3.6VCCA, 1.65~5.5V VCCB (VCCA <= VCCB); VALUE: TXB0102
footprint SOG50_8 (VSSOP DCU US8  (TI), 8-Leads, 2.00x2.30mm, Pitch 0.50mm)
pins: 1 B2 (io), 2 G (power), 3 VA (power), 4 A2 (io), 5 A1 (io), 6 OE (in), 7 VB (power), 8 B1 (io)

## TXB0104_SSOP14
designator U?, comment TXB0104
Level Translator, Quad, 100Mbps; MANF: TI; MANF_P#: TXB0104PWR; PARAM2: 1.2~3.6VCCA, 1.65~5.5V VCCB (VCCA <= VCCB); PARAM: 100Mbps, -40~85oC; VALUE: TXB0104
footprint SOG65_14 (PW TSSOP (TI), MO-153-AB (JEDEC), 14Lead, pitch: 0.65mm, 5x4.4x1.2mm)
pins: 1 VCCA, 2 A1 (io), 3 A2 (io), 4 A3 (io), 5 A4 (io), 6 NC1, 7 GND, 8 OE (in), 9 NC2, 10 B4 (io), 11 B3 (io), 12 B2 (io), 13 B1 (io), 14 VCCB

## TXB0104_UQFN12
designator U?, comment TXB0104
Level Translator, Quad, 100Mbps, UQFN-12; MANF: TI; MANF_P#: TXB0104RUT; PARAM2: 1.2~3.6VCCA, 1.65~5.5V VCCB (VCCA<=VCCB); PARAM: 100Mbps, -40~85oC; PRICE: 1.4$; VALUE: TXB0104
footprint QFN40_12_1720 (UQFN-12, pitch: 0.4mm, 1.7x2x0.5mm)
pins: 1 VCCA, 2 A1 (io), 3 A2 (io), 4 A3 (io), 5 A4 (io), 6 GND, 7 B4 (io), 8 B3 (io), 9 B2 (io), 10 B1 (io), 11 VCCB, 12 OE (in)

## TXB0108_SON20
designator U?, comment TXB0108
Buffer, VOLTAGE-LEVEL TRANSLATOR, 8-BIT, BIDIRECTIONAL, AUTO-DIRECTION SENSING; MANF: Texas Instruments; DESC: 50mA; DIST#: -40~85oC; MANF_P#: TXB0108DQSR; PARAM2: 1.2~3.6VCCA, 1.65~5.5V VCCB (VCCA <= VCCB); PARAM: 8-BIT, BIDIRECTIONAL, AUTO-DIRECTION SENSING; PRICE: 1.5$; VALUE: TXB0108
footprint SON40_20_4020 (SON20, DQS, pitch: 0.4mm, 2x4x0.5mm)
pins: 1 A1 (io), 2 A2 (io), 3 A3 (io), 4 A4 (io), 5 VCCA (power), 6 OE (in), 7 A5 (io), 8 A6 (io), 9 A7 (io), 10 A8 (io), 11 B8 (io), 12 B7 (io), 13 B6 (io), 14 B5 (io), 15 GND (power), 16 VCCB (power), 17 B4 (io), 18 B3 (io), 19 B2 (io), 20 B1 (io)

## TXB0108_TSSOP20
designator U?, comment TXB0108
Buffer, VOLTAGE-LEVEL TRANSLATOR, 8-BIT, BIDIRECTIONAL, AUTO-DIRECTION SENSING; MANF: Texas Instruments; DESC: 50mA; MANF_P#: TXB0108PWR; PARAM2: 1.2~3.6VCCA, 1.65~5.5V VCCB (VCCA <= VCCB); PARAM: 8-BIT, BIDIRECTIONAL, AUTO-DIRECTION SENSING; VALUE: TXB0108
footprint SOG65_20 (PW TSSOP (TI), MO-153-AC (JEDEC), 20Lead, pitch: 0.65mm, 6.5x4.4x1.2mm)
pins: 1 A1 (io), 2 VCCA (power), 3 A2 (io), 4 A3 (io), 5 A4 (io), 6 A5 (io), 7 A6 (io), 8 A7 (io), 9 A8 (io), 10 OE (in), 11 GND (power), 12 B8 (io), 13 B7 (io), 14 B6 (io), 15 B5 (io), 16 B4 (io), 17 B3 (io), 18 B2 (io), 19 VCCB (power), 20 B1 (io)

## TXB0108_VQFN
designator U?, comment TXB0108
Buffer, VOLTAGE-LEVEL TRANSLATOR, 8-BIT, BIDIRECTIONAL, AUTO-DIRECTION SENSING; DESC: 50mA; MANF: TI; MANF_P#: TXB0108RGYR; PARAM2: 1.2~3.6VCCA, 1.65~5.5V VCCB (VCCA <= VCCB); PARAM: 8-BIT, BIDIRECTIONAL, AUTO-DIRECTION SENSING; VALUE: TXB0108
footprint QFN50_20T_4X3 (RGY VQFN-20, 0.5mm Pitch, 4.5x3.5x1mm)
pins: 1 A1 (io), 2 VCCA (power), 3 A2 (io), 4 A3 (io), 5 A4 (io), 6 A5 (io), 7 A6 (io), 8 A7 (io), 9 A8 (io), 10 OE (in), 11 GND (power), 12 B8 (io), 13 B7 (io), 14 B6 (io), 15 B5 (io), 16 B4 (io), 17 B3 (io), 18 B2 (io), 19 VCCB (power), 20 B1 (io), 21 EPAD

## TXS0102_SM8
designator U?, comment TXS0102
Level Translator, Dual, OpenDrain/PushPull App; MANF: Texas Instruments; MANF_P#: TXS0102DCT; PARAM2: 1.65~2.3VA, 3.6~5.5VB; VALUE: TXS0102
footprint SOG65_8_3 (TSSOP8, MICRO8,  DGK VSSOP-8, MSOP8,   RM-8, MS8, MSOP-8, TSSO3X5-G8/D3.1, 8 uMAX, usop8/8uSOP, MO-187AA, MO-153AA, SSOP DCT SM8 (TI), pitch: 0.65mm, 3.0mmX3.0mm)
pins: 1 B2 (io), 2 G (power), 3 VA (power), 4 A2 (io), 5 A1 (io), 6 OE (in), 7 VB (power), 8 B1 (io)

## TXS0102_VSSOP8
designator U?, comment TXS0102
Level Translator, Dual, OpenDrain/PushPull App; MANF: Texas Instruments; MANF_P#: TXS0102DCUR; PARAM2: 1.65~2.3VA, 3.6~5.5VB; VALUE: TXS0102
footprint SOG50_8 (VSSOP DCU US8  (TI), 8-Leads, 2.00x2.30mm, Pitch 0.50mm)
pins: 1 B2 (io), 2 G (power), 3 VA (power), 4 A2 (io), 5 A1 (io), 6 OE (in), 7 VB (power), 8 B1 (io)

## TXS0102_X2SONE
designator U?, comment TXS0102
Level Translator, Dual, OpenDrain/PushPull App; MANF: Texas Instruments; MANF_P#: TXS0102DQER; PARAM2: 1.65~2.3VA, 3.6~5.5VB; VALUE: TXS0102
footprint SON35_8 (X2SON-8-DQE, pitch: 0.35mm, 1.4mmX1.00mm)
pins: 1 VA (power), 2 A1 (io), 3 A2 (io), 4 G (power), 5 OE (in), 6 B2 (io), 7 B1 (io), 8 VB (power)

## TXS0102_X2SONM
designator U?, comment TXS0102
Level Translator, Dual, OpenDrain/PushPull App; MANF: Texas Instruments; MANF_P#: TXS0102DQMR; PARAM2: 1.65~2.3VA, 3.6~5.5VB; VALUE: TXS0102
footprint SON40_8_180X120 (Footprint not found)
pins: 1 VA (power), 2 A1 (io), 3 A2 (io), 4 G (power), 5 OE (in), 6 B2 (io), 7 B1 (io), 8 VB (power)

## TXS0104E_SOP14
designator U?, comment TXS0104E
Level Translator, Quad,; MANF: TI; MANF_P#: TXS0104EDR; VALUE: TXS0104E
footprint SO_14 (SOP, SOIC, 3.9mm width, 1.27mm pitch,)
pins: 1 VCCA, 2 A1 (io), 3 A2 (io), 4 A3 (io), 5 A4 (io), 6 NC1, 7 GND, 8 OE (in), 9 NC2, 10 B4 (io), 11 B3 (io), 12 B2 (io), 13 B1 (io), 14 VCCB

## TXS0108_SSOP20
designator U?, comment TXS0108E
Level Translator, Octal; MANF: Texas Instruments; MANF_P#: TXS0108EPWR; VALUE: TXS0108E
footprint SOG65_20 (PW TSSOP (TI), MO-153-AC (JEDEC), 20Lead, pitch: 0.65mm, 6.5x4.4x1.2mm)
pins: 1 A1 (io), 2 VCCA (power), 3 A2 (io), 4 A3 (io), 5 A4 (io), 6 A5 (io), 7 A6 (io), 8 A7 (io), 9 A8 (io), 10 OE (in), 11 GND (power), 12 B8 (io), 13 B7 (io), 14 B6 (io), 15 B5 (io), 16 B4 (io), 17 B3 (io), 18 B2 (io), 19 VCCB (power), 20 B1 (io)

## TXS02612_QFN24
designator U?, comment TXS02612
I/O Expander, SDIO; MANF: Texas Instruments; MANF_P#: TXS02612RTWR; PARAM2: 1.1~3.6V; VALUE: TXS02612
footprint QFN50_24T (MO-220 (JEDEC), RGE S-PQFP-N24 (TI), 4X4mm, 0.5mm, HVQFN24)
pins: 1 DAT2A, 2 GND1, 3 DAT3A, 4 CMDA, 5 VCCA, 6 DAT0A, 7 DAT1A, 8 DAT2B1, 9 CLKA, 10 DAT3B1, 11 GND2, 12 CMDB1, 13 CLKB1, 14 DAT0B1, 15 DAT1B1, 16 DAT1B0, 17 VCCB1, 18 DAT0B0, 19 CLKB0, 20 CMDB0, 21 VCCB0, 22 DAT3B0, 23 DAT2B0, 24 SEL, 25 PAD